# Altium footprint library Deans jack.PcbLib: 2 footprints
Each footprint in its own frame and in the unit in brackets; x right, y up, seen from the top. Pads: shape width x height; smd on the part's side, far side on the other; paste and mask are expansions set on the pad; w line width, h text height; cw(c..) or ccw(c..) is an arc to the next point about the centre after c.
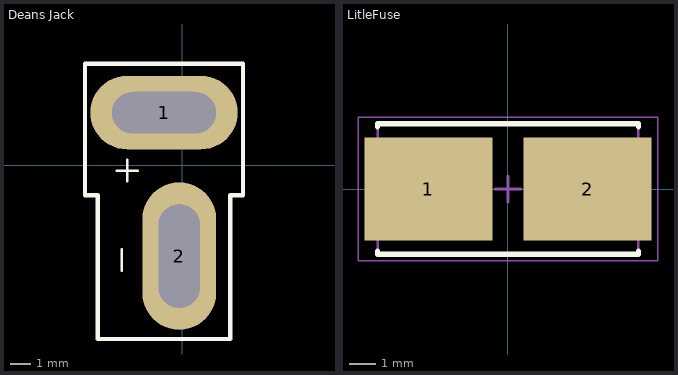
[diagram p0: the footprints below, top view; thin cyan lines are the x and y axes]

## Deans Jack [mil]
pads (2):
  oval 280x140 hole 78.74 slot 196.85 at 0 deg: 1(-34.25,100)
  oval 140x280 hole 78.74 slot 196.85 at 90 deg: 2(-5.25,-172.5)
Top Overlay:
  lines w5: -124.25,-10 -84.25,-10 ; -114.25,-200 -114.25,-160 ; -104.25,-30 -104.25,10
  lines w8: -184.25,-57 -160.25,-57 -160.25,-330 91.75,-330 91.75,-57 115.75,-57 115.75,193 -184.25,193 -184.25,-57
Mechanical 1:
  lines w5: -146.25,73 -146.25,127 77.75,127 77.75,73 -146.25,73 ; -32.25,-284 21.75,-284 21.75,-60 -32.25,-60 -32.25,-284

## LitleFuse [mm] "Molded Capacitor, 2-Leads, Body 9,75x4,65mm, IPC Medium Density"
height 4
pads (2):
  rect 4.9x3.95 smd: 1(-3.05,0) 2(3.05,0)
Top Overlay:
  lines w0.2: -5,-2.375 -5,-2.5 5,-2.5 5,-2.375 ; -5,2.375 -5,2.5 5,2.5 5,2.375
Mechanical 13:
  lines w0.1: -5,-2.5 5,-2.5 5,2.5 -5,2.5 -5,-2.5
Mechanical 15:
  lines w0.05: -5.75,-2.75 5.75,-2.75 5.75,2.75 -5.75,2.75 -5.75,-2.75
  lines w0.1: -0.5,0 0.5,0 ; 0,-0.5 0,0.5
3D body: height 4, standoff 0, extent -5,-2.5 5,2.5